# EAGLE library part DRV8312 (library kiks-ic)
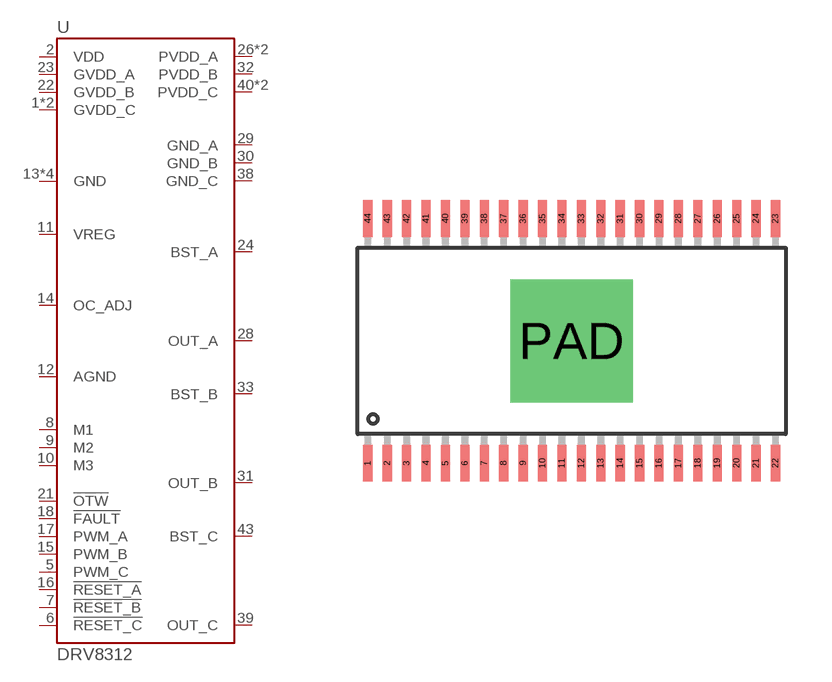
[diagram p4: symbol with the pads of HTSSOP44; footprint HTSSOP44]

Designator prefix U

## DRV8312  [HTSSOP44]
1  GVDD_C  in
2  VDD  in
5  PWM_C  in
6  !RESET_C  in
7  !RESET_B  in
8  M1  in
9  M2  in
10  M3  in
11  VREG  out
12  AGND  in
13  GND  in
14  OC_ADJ
15  PWM_B  in
16  !RESET_A  in
17  PWM_A  in
18  !FAULT  oc
21  !OTW  oc
22  GVDD_B  in
23  GVDD_A  in
24  BST_A
26  PVDD_A  in
27  PVDD_A  in
28  OUT_A  out
29  GND_A  in
30  GND_B  in
31  OUT_B  out
32  PVDD_B  in
33  BST_B
36  GND  in
37  GND  in
38  GND_C  in
39  OUT_C  out
40  PVDD_C  in
41  PVDD_C  in
43  BST_C
44  GVDD_C  in
PAD  GND  in

## Footprint HTSSOP44 (pad centres in mm)
smd 0.3 x 1.2: 1 -6.668,-4; 2 -6.032,-4; 3 -5.397,-4; 4 -4.763,-4; 5 -4.128,-4; 6 -3.493,-4; 7 -2.857,-4; 8 -2.223,-4; 9 -1.587,-4; 10 -0.953,-4; 11 -0.318,-4; 12 0.318,-4; 13 0.953,-4; 14 1.587,-4; 15 2.223,-4; 16 2.857,-4; 17 3.493,-4; 18 4.128,-4; 19 4.763,-4; 20 5.397,-4; 21 6.032,-4; 22 6.668,-4; 23 6.668,4; 24 6.032,4; 25 5.397,4; 26 4.763,4; 27 4.128,4; 28 3.493,4; 29 2.857,4; 30 2.223,4; 31 1.587,4; 32 0.953,4; 33 0.318,4; 34 -0.318,4; 35 -0.953,4; 36 -1.587,4; 37 -2.223,4; 38 -2.857,4; 39 -3.493,4; 40 -4.128,4; 41 -4.763,4; 42 -5.397,4; 43 -6.032,4; 44 -6.668,4
drill 3 pad 3.6 square: PAD 0,0